# Altium schematic symbol library Inductor_0402.SchLib: 5 symbols
Pins are listed as number, name and electrical type; pins without a type are passive.

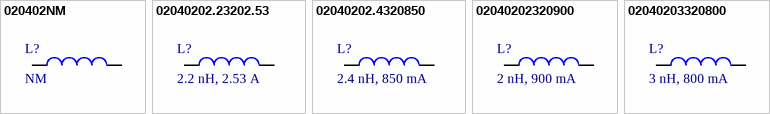
[diagram p0: symbols 020402NM to 02040203320800]

## 020402NM
designator L?, comment NM
Inductor SMD, size 0402, NM; Shielding: Unshielded; Inductance: N/A; Tolerance: N/A; Packaging: Tape and Reel; Supplier 1 URL: N/A; Supplier 2 URL: N/A; Supplier 3 URL: N/A; Maximum DC Current: N/A; Maximum DC Resistance: N/A; Saturation Current: N/A; ComponentLink1Description: Datasheet; ComponentLink1URL: N/A; Value: NM; Manufacturer: N/A; Manufacturer Part Number: N/A; Mount: SMD/SMT; Operating Temperature Max: + 125 C; Operating Temperature Min: - 55 C; Package / Case: 0402; Supplier 1: Mouser; Supplier 1 Part Number: N/A; Supplier 2: Digi-Key; Supplier 2 Part Number: N/A; Supplier 3: thegioiic; Supplier 3 Part Number: N/A; LCSC Part #: N/A; Q Minimum: N/A; Self Resonant Frequency: N/A; Type: N/A
footprint 0402 (Chip Inductor, 2-Leads, Body 1.00x0.50mm, IPC Medium Density)
pins: 1, 2

## 02040202.23202.53
designator L?, comment 2.2 nH, 2.53 A
Inductor SMD, size 0402, 2.2 nH, 2.53 A; Manufacturer: muRata; Manufacturer Part Number: LQW15AN2N2B80D; Inductance: 2.2 nH; Tolerance: ±0.1 nH; Maximum DC Current: 2.53 A; Maximum DC Resistance: 22 mOhms; Value: 2.2 nH; Q Minimum: 30; Self Resonant Frequency: 15.5GHz; Shielding: Unshielded; Type: Wirewound; Packaging: Tape and Reel; Supplier 1 URL: https://www.mouser.vn/en/ProductDetail/Murata-Electronics/LQW15AN2N2B80D?qs=F2r4PX9PQ5%252BYlDkQ6Sos7A%3D%3D; Supplier 2 URL: https://www.digikey.com/en/products/detail/murata-electronics/LQW15AN2N2B80D/4292345?s=N4IgTCBcDaIDIEUDqBGArAQQHJhwIQA4AGAERAF0BfIA; Supplier 3 URL: N/A; Saturation Current: N/A; ComponentLink1Description: Datasheet; ComponentLink1URL: https://www.lcsc.com/datasheet/C2041833.pdf?spm=wm.sxq.inf.ggs___wm.fly.bg.1.xh&lcsc_vid=FlkIUABWQVJeAgZfQwdWUlcFT1ZYUV1ST1deUwVWQ1IxVlNeT1laVlRSRldcUjsOAxUeFF5JWBYZEEoKFBINSQcJGk4NBhADEA4cHktXRlVcSQwSGg0%3D; Mount: SMD/SMT; Operating Temperature Max: + 125 C; Operating Temperature Min: - 55 C; Package / Case: 0402; Supplier 1: Mouser; Supplier 1 Part Number: 81-LQW15AN2N2B80D; Supplier 2: Digi-Key; Supplier 2 Part Number: 490-7632-2-ND; Supplier 3: thegioiic; Supplier 3 Part Number: N/A; LCSC Part #: C2041833
footprint 0402 (Chip Inductor, 2-Leads, Body 1.00x0.50mm, IPC Medium Density)
pins: 1, 2

## 02040202.4320850
designator L?, comment 2.4 nH, 850 mA
Inductor SMD, size 0402, 2.2 nH, 0.85 A; Manufacturer: muRata; Manufacturer Part Number: LQG15HS2N4B02D; Inductance: 2.4 nH; Tolerance: ±0.1 nH; Maximum DC Current: 850 mA; Maximum DC Resistance: 110 mOhms; Value: 2.4 nH; Q Minimum: 8; Self Resonant Frequency: 6 GHz; Shielding: Unshielded; Type: Multilayer; Packaging: Tape and Reel; Supplier 1 URL: https://www.mouser.vn/en/ProductDetail/Murata-Electronics/LQG15HS2N4B02D?qs=d0WKAl%252BL4KaAuYLKbK183A%3D%3D; Supplier 2 URL: https://www.digikey.com/en/products/detail/murata-electronics/LQG15HS2N4B02D/13688586?s=N4IgTCBcDaIDIEUDiBGArACQMpgHIBYAhABjABEQBdAXyA; Supplier 3 URL: N/A; Saturation Current: N/A; ComponentLink1Description: Datasheet; ComponentLink1URL: https://www.mouser.vn/datasheet/3/76/2/JELF243B_0010.pdf; Mount: SMD/SMT; Operating Temperature Max: + 125 C; Operating Temperature Min: - 55 C; Package / Case: 0402; Supplier 1: Mouser; Supplier 1 Part Number: 81-LQG15HS2N4B02D; Supplier 2: Digi-Key; Supplier 2 Part Number: 490-LQG15HS2N4B02DTR-ND; Supplier 3: thegioiic; Supplier 3 Part Number: N/A; LCSC Part #: C5367275
footprint 0402 (Chip Inductor, 2-Leads, Body 1.00x0.50mm, IPC Medium Density)
pins: 1, 2

## 02040202320900
designator L?, comment 2 nH, 900 mA
Inductor SMD, size 0402, 2 nH, 0.9 A; Manufacturer: muRata; Manufacturer Part Number: LQG15HS2N0S02D; Inductance: 2 nH; Tolerance: ±0.3 nH; Maximum DC Current: 900 mA; Maximum DC Resistance: 90 mOhms; Value: 2 nH; Q Minimum: 8; Self Resonant Frequency: 6 GHz; Shielding: Unshielded; Type: Multilayer; Packaging: Tape and Reel; Supplier 1 URL: https://www.mouser.vn/en/ProductDetail/Murata-Electronics/LQG15HS2N0S02D?qs=z7wylDbq%2FU6uWxpTRPm4gA%3D%3D; Supplier 2 URL: https://www.digikey.com/en/products/detail/murata-electronics/LQG15HS2N0S02D/1795312?s=N4IgTCBcDaIDIEUDiBGArACQMpgHIAYt8wAREAXQF8g; Supplier 3 URL: N/A; Saturation Current: N/A; ComponentLink1Description: Datasheet; ComponentLink1URL: https://www.lcsc.com/datasheet/C18216.pdf?spm=wm.sxq.inf.ggs___wm.fly.bg.4.xh&lcsc_vid=FlkIUABWQVJeAgZfQwdWUlcFT1ZYUV1ST1deUwVWQ1IxVlNeT1laVlRSRldcUjsOAxUeFF5JWBYZEEoKFBINSQcJGk4NBhADEA4cHktXRlVcSQwSGg0%3D; Mount: SMD/SMT; Operating Temperature Max: + 125 C; Operating Temperature Min: - 55 C; Package / Case: 0402; Supplier 1: Mouser; Supplier 1 Part Number: 81-LQG15HS2N0S02D; Supplier 2: Digi-Key; Supplier 2 Part Number: 490-6569-2-ND; Supplier 3: thegioiic; Supplier 3 Part Number: N/A; LCSC Part #: C18216
footprint 0402 (Chip Inductor, 2-Leads, Body 1.00x0.50mm, IPC Medium Density)
pins: 1, 2

## 02040203320800
designator L?, comment 3 nH, 800 mA
Inductor SMD, size 0402, 2.2 nH, 0.8 A; Manufacturer: muRata; Manufacturer Part Number: LQG15HS3N0B02D; Inductance: 3 nH; Tolerance: ±0.1 nH; Maximum DC Current: 800 mA; Maximum DC Resistance: 125 mOhms; Value: 3 nH; Q Minimum: 8; Self Resonant Frequency: 6 GHz; Shielding: Unshielded; Type: Multilayer; Packaging: Tape and Reel; Supplier 1 URL: https://www.mouser.vn/en/ProductDetail/Murata-Electronics/LQG15HS3N0B02D?qs=EBDBlbfErPx%252B2TQs%2FvWYnA%3D%3D; Supplier 2 URL: https://www.digikey.com/en/products/detail/murata-electronics/lqg15hs3n0b02d/13688588; Supplier 3 URL: N/A; Saturation Current: N/A; ComponentLink1Description: Datasheet; ComponentLink1URL: https://www.lcsc.com/datasheet/C3910378.pdf?spm=wm.sxq.inf.ggs___wm.fly.bg.6.xh&lcsc_vid=FlkIUABWQVJeAgZfQwdWUlcFT1ZYUV1ST1deUwVWQ1IxVlNeT1laVlRSRldcUjsOAxUeFF5JWBYZEEoKFBINSQcJGk4NBhADEA4cHktXRlVcSQwSGg0%3D; Mount: SMD/SMT; Operating Temperature Max: + 125 C; Operating Temperature Min: - 55 C; Package / Case: 0402; Supplier 1: Mouser; Supplier 1 Part Number: 81-LQG15HS3N0B02D; Supplier 2: Digi-Key; Supplier 2 Part Number: 490-LQG15HS3N0B02DTR-ND; Supplier 3: thegioiic; Supplier 3 Part Number: N/A; LCSC Part #: C3910378
footprint 0402 (Chip Inductor, 2-Leads, Body 1.00x0.50mm, IPC Medium Density)
pins: 1, 2